# Altium schematic symbol library PartsLib.SchLib: 63 symbols (part 1 of 3)
Pins are listed as number, name and electrical type; pins without a type are passive.

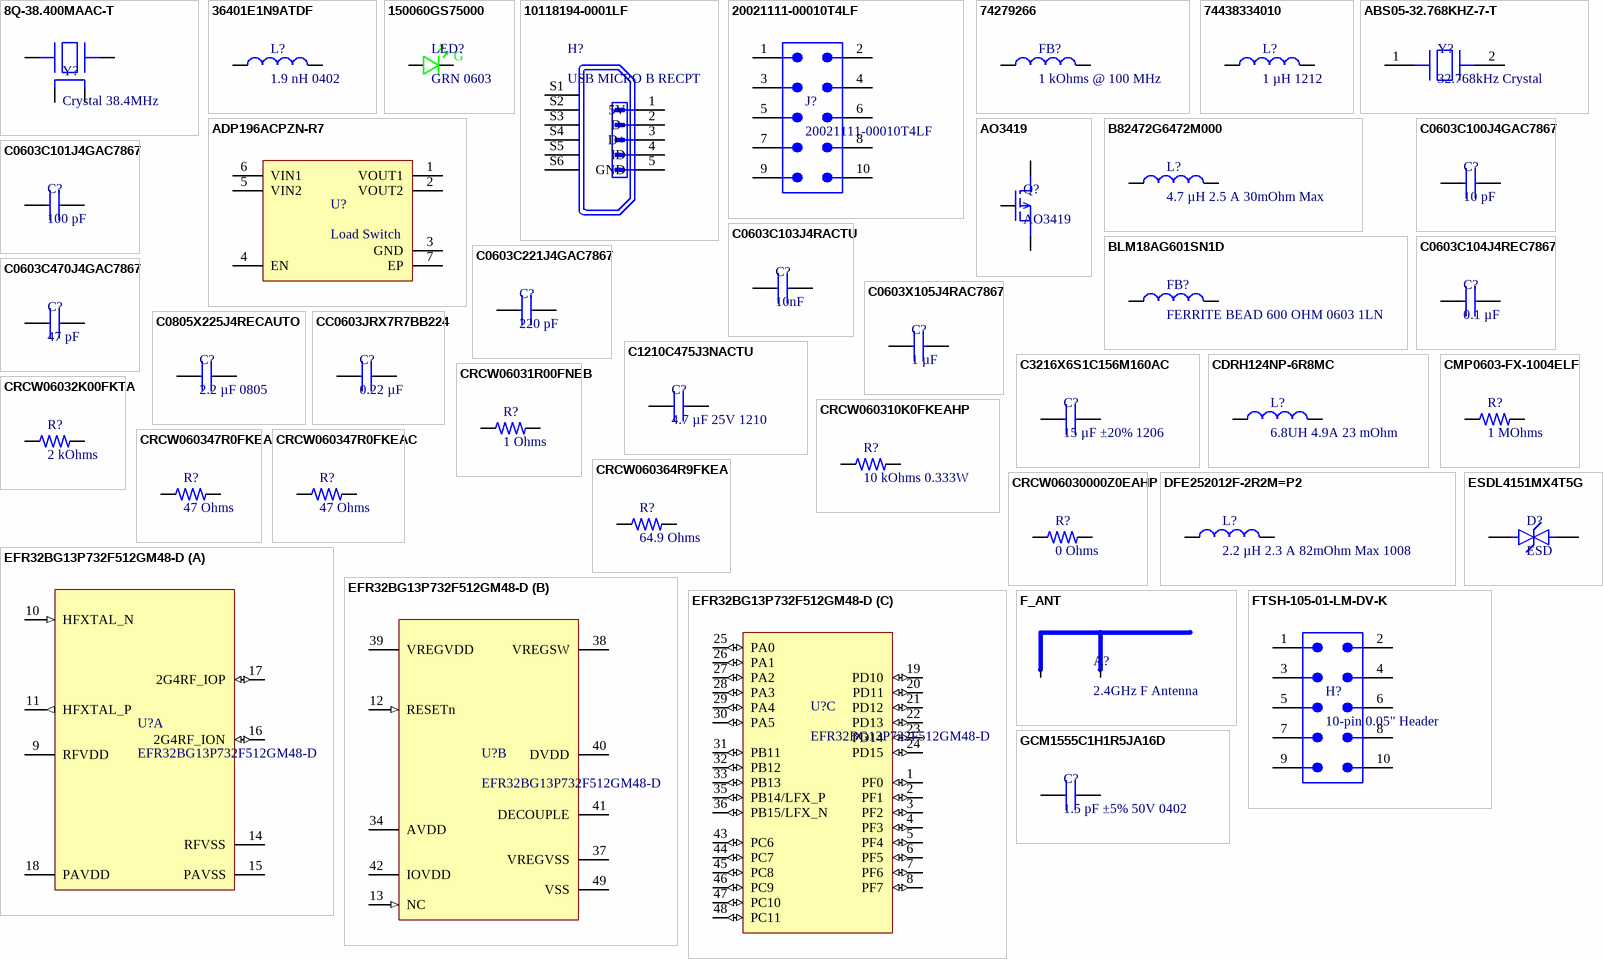
[diagram p0: symbols 8Q-38.400MAAC-T to GCM1555C1H1R5JA16D]

## 8Q-38.400MAAC-T
designator Y?, comment Crystal 38.4MHz
Crystal 38.4MHz ±30ppm (Tol) ±30ppm (Stability) 9pF FUND 80Ohm 4-Pin SMD T/R; Manufacturer: TXC; Manufacturer Part Number: 8Q-38.400MAAC-T; Supplier 1: Digi-Key; RoHS: No; Category: Uncategorized; Stock 1: 3000; Pricing 1: 1=0.79000, 10=0.69700, 50=0.65140, 100=0.57570, 500=0.54540, 1000=0.45450 (USD)
footprint DFN105P160X40-4N (DFN, 4-Leads, Body 1.20x1.60mm, Pitch 1.05mm, IPC Medium Density)
pins: 1 OSC_1, 2 GND, 3 OSC_2, 4 GND

## 36401E1N9ATDF
designator L?, comment 1.9 nH 0402
Ind High Frequency Chip Molded/Unshielded Thin Film 1.9nH 0.2nH 500MHz 13Q-Factor 560mA 0402 T/R; Manufacturer: TE Connectivity; Manufacturer Part Number: 36401E1N9ATDF; Q Factor: 13; Tolerance: 0.2%; Inductance: 0.0019uH; DC Resistance (DCR): 350mR; Self Resonant Frequency: 8GHz; Lead/Base Style: SMD/SMT; Supplier 1: Digi-Key; RoHS: Yes; Category: Fixed Inductors; Stock 1: 735; Pricing 1: 1=0.21000, 10=0.19200, 25=0.17080, 50=0.14520, 100=0.12820, 250=0.11752, 500=0.10684 (USD); Mount: Surface Mount; Case/Package: 0402; Number of Pins: 2; Case Code (Metric): 1005; Case Code (Imperial): 0402; Weight: 2.3E-05oz; Min Operating Temperature: -40°C; Max Operating Temperature: 85°C; Packaging: Tape and Reel; Package Quantity: 1000; Max DC Current: 560mA; Termination: SMD/SMT; Test Frequency: 500MHz; Max Frequency: 500MHz; Shielding: Unshielded; Resistor Type: Thin Film; Max Current Rating: 560mA; Series: 3640; Technology: THIN FILM; Length: 1mm; Width: 0.5mm; Height: 0.32mm; Depth: 0.55mm; Radiation Hardening: No; REACH SVHC: Unknown; ELV: Compliant; RoHS Compliant: Yes; ComponentLink1URL: https://datasheet.ciiva.com/1131/eng-cd-1624108-ba-1131568.pdf?src-supplier=Farnell; ComponentLink1Description: https://datasheet.ciiva.com/1131/eng-cd-1624108-ba-1131568.pdf?src-supplier=Farnell; ComponentLink2URL: https://datasheet.ciiva.com/11800/0900766b80e1823e-11800596.pdf?src-supplier=RSComponents; ComponentLink2Description: https://datasheet.ciiva.com/11800/0900766b80e1823e-11800596.pdf?src-supplier=RSComponents; ComponentLink3URL: https://datasheet.ciiva.com/1129/1610600-1129220.pdf?src-supplier=Element14; ComponentLink3Description: https://datasheet.ciiva.com/1129/1610600-1129220.pdf?src-supplier=Element14; ComponentLink4URL: https://datasheet.ciiva.com/1129/1610600-1129221.pdf?src-supplier=Element14; ComponentLink4Description: https://datasheet.ciiva.com/1129/1610600-1129221.pdf?src-supplier=Element14
footprint INDC0402X04N (Chip Inductor, 2-Leads, Body 1.00x0.50mm, IPC Medium Density)
pins: 1, 2

## 150060GS75000
designator LED?, comment GRN 0603
LED, 0603, GREEN, 430MCD, 520NM; Manufacturer: Wurth Electronics; Manufacturer Part Number: 150060GS75000; Dynamic Catalog: 0603 Rectangle with Flat Top Chip LEDs; 3D Model: SMCW_0603.igs / SMCW_0603.stp / SMCW_0603.wrl; Wavelength - Peak: 515nm; Voltage - Forward (Vf) (Typ): 3.2V; Current - Test: 20mA; Viewing Angle: 140°; Lens Type: Clear; Lens Style/Size: Rectangle with Flat Top, 1.1mm x 0.7mm; Other Names: 732-4971-2; Supplier 1: Digi-Key; Stock 1: 34964; Pricing 1: 1=0.14, 50=0.129, 100=0.11, 500=0.095 (USD); Standard Package: 4,000; Category: Optoelectronics; Family: LED Indication - Discrete; Series: WL-SMCW; Packaging: Tape & Reel (TR); Color: Green; Wavelength - Dominant: 520nm; Millicandela Rating: 430mcd; Package / Case: 0603 (1608 Metric); Size / Dimension: 1.60mm L x 0.80mm W; Height: 0.70mm; Mounting Type: Surface Mount; Online Catalog: 0603 Rectangle with Flat Top Chip LEDs; ComponentLink1URL: https://katalog.we-online.de/led/datasheet/150060GS75000.pdf?src-supplier=Digi-Key; ComponentLink1Description: https://katalog.we-online.de/led/datasheet/150060GS75000.pdf?src-supplier=Digi-Key; ComponentLink2URL: http://www.produktinfo.conrad.com/datenblaetter/750000-774999/759427-da-01-en-CHIPLED_0603_W_KL_GRUEN_150060GS75000.pdf?src-supplier=Conrad; ComponentLink2Description: http://www.produktinfo.conrad.com/datenblaetter/750000-774999/759427-da-01-en-CHIPLED_0603_W_KL_GRUEN_150060GS75000.pdf?src-supplier=Conrad; Supplier Part Number 1: 732-4971-1-ND
footprint LED_0603_GRN_WL-SMCW (SODFL, 2-Leads, Body 0.80x1.80mm, IPC Medium Density)
pins: A, C
text: G

## 10118194-0001LF
designator H?, comment USB MICRO B RECPT
USB - micro B USB 2.0 Receptacle Connector 5 Position Surface Mount, Right Angle; Through Hole; Manufacturer: Amphenol FCI; Manufacturer Part Number: 10118194-0001LF; Number of Terminals/Pins: 5; Current Rating: 1.8A; Connector Type: USB,Receptacle; Insulation Resistance: 1GR; Number of Ports: 1; Max Voltage Rating (AC): 100V; Pitch: 0.65mm; Supplier 1: Digi-Key; RoHS: Yes; Category: USB Connectors; Stock 1: 87961; Pricing 1: 1=0.48000, 10=0.45100, 25=0.38680, 50=0.32860, 100=0.31580, 250=0.28360, 500=0.27070 (USD); Mount: Surface Mount,Horizontal; Contact Material: Copper Alloy; Contact Plating: Gold; Housing Material: Polymer; Color: Black; Min Operating Temperature: -55°C; Max Operating Temperature: 85°C; Package Quantity: 9600; Packaging: Tape and Reel; Gender: Receptacle; Number of Contacts: 5; Termination: Solder; Orientation: Right Angle; Features: Shielded; Length: 8.05mm; Depth: 5mm; Radiation Hardening: No; Lead Free: Lead Free; Flammability Rating: UL94 V-0; ComponentLink1URL: https://datasheet.ciiva.com/4598/10118194ac-197217-4598807.pdf?src-supplier=Mouser; ComponentLink1Description: https://datasheet.ciiva.com/4598/10118194ac-197217-4598807.pdf?src-supplier=Mouser; ComponentLink2URL: https://datasheet.ciiva.com/26945/getdatasheetpartid-418619-26945695.pdf?src-supplier=Verical; ComponentLink2Description: https://datasheet.ciiva.com/26945/getdatasheetpartid-418619-26945695.pdf?src-supplier=Verical; ComponentLink3URL: https://datasheet.ciiva.com/851/10118194-851110.pdf?src-supplier=Digi-Key; ComponentLink3Description: https://datasheet.ciiva.com/851/10118194-851110.pdf?src-supplier=Digi-Key; ComponentLink4URL: https://datasheet.ciiva.com/851/10118194-851111.pdf?src-supplier=Digi-Key; ComponentLink4Description: https://datasheet.ciiva.com/851/10118194-851111.pdf?src-supplier=Digi-Key; Supplier Part Number 1: 609-4618-6-ND
footprint MICROUSB_AMPHENOL_10118194-0001LF
pins: 1 5V (power), 2 D-, 3 D+, 4 ID, 5 GND, S1, S2, S3, S4, S5, S6

## 20021111-00010T4LF
designator J?
Conn Unshrouded Header HDR 10 POS 1.27mm Solder ST Top Entry Thru-Hole Minitek127® Tube; Mfr_Name: Amphenol ICC; Manufacturer: Amphenol ICC / FCI; Copyright: Copyright (C) 2022 Ultra Librarian. All rights reserved.; Manufacturer_Part_Number: 20021111-00010T4LF; Digi-Key_Part_Number_1: 609-3712-ND; RefDes: RefDes; Type: DEV; Supplier 1: Avnet; Manufacturer Part Number: 20021111-00010T4LF; RoHS: No; Category: Headers and Wire Housings; Stock 1: 3760; Pricing 1: 1=0.39546, 10=0.38532, 30=0.37518, 50=0.36504, 100=0.35490, 250=0.34476, 500=0.33462 (USD); ComponentLink1URL: http://components.arrow.com/part/dataview/0323_00898490?src-supplier=Arrow+Europe; ComponentLink1Description: http://components.arrow.com/part/dataview/0323_00898490?src-supplier=Arrow+Europe; ComponentLink2URL: http://uk.rs-online.com/webdocs/13f3/0900766b813f3563.pdf?src-supplier=RSComponents; ComponentLink2Description: http://uk.rs-online.com/webdocs/13f3/0900766b813f3563.pdf?src-supplier=RSComponents; ComponentLink3URL: http://www.farnell.com/datasheets/2374175.pdf?src-supplier=Farnell; ComponentLink3Description: http://www.farnell.com/datasheets/2374175.pdf?src-supplier=Farnell; ComponentLink4URL: http://portal.fciconnect.com/Comergent/fci/drawing/20021111.pdf?src-supplier=Avnet; ComponentLink4Description: http://portal.fciconnect.com/Comergent/fci/drawing/20021111.pdf?src-supplier=Avnet; ComponentLink5URL: https://cdn.amphenol-icc.com/media/wysiwyg/files/drawing/20021111.pdf?src-supplier=Digi-Key; ComponentLink5Description: https://cdn.amphenol-icc.com/media/wysiwyg/files/drawing/20021111.pdf?src-supplier=Digi-Key; ComponentLink6URL: http://portal.fciconnect.com/Comergent//fci/drawing/20021111.pdf?src-supplier=Mouser; ComponentLink6Description: http://portal.fciconnect.com/Comergent//fci/drawing/20021111.pdf?src-supplier=Mouser; ComponentLink7URL: http://www.farnell.com/datasheets/2374175.pdf?src-supplier=Newark; ComponentLink7Description: http://www.farnell.com/datasheets/2374175.pdf?src-supplier=Newark
footprint CONN_MINITEK_2X5_HDR
pins: 1, 2, 3, 4, 5, 6, 7, 8, 9, 10

## 74279266
designator FB?, comment 1 kOhms @ 100 MHz
Ferrite Beads Multi-Layer 1KOhm 25% 100MHz 0.65A 0.6Ohm DCR 0603 T/R; Manufacturer: Wurth Electronics; Manufacturer Part Number: 74279266; Impedance: 1kR; Max DC Current: 200mA; DC Resistance (DCR): 600mR; Number of Lines: 1; Inductance: 1.8nH; Shielding: Unshielded; Supplier 1: Digi-Key; RoHS: Yes; Category: Ferrite Beads and Chips; Pricing 1: 1=0.18000, 50=0.17400, 100=0.16000, 500=0.15300, 1000=0.14600, 2000=0.13900 (USD); Case/Package: SMD/SMT; Case Code (Metric): 1608; Case Code (Imperial): 0603; Core Material: Ferrite; Min Operating Temperature: -55°C; Max Operating Temperature: 125°C; Tolerance: 25%; Packaging: Tape and Reel; Termination: SMD/SMT; Test Frequency: 100MHz; Max Current Rating: 200mA; Series: WE-CBF; Current Rating: 200mA; Length: 1.6mm; Width: 0.8mm; Height: 0.8mm; Depth: 0.8mm; Lead Free: Lead Free; REACH SVHC: Unknown; RoHS Compliant: Yes; ComponentLink1URL: https://datasheet.ciiva.com/12395/74279266-221135-12395453.pdf?src-supplier=Mouser; ComponentLink1Description: https://datasheet.ciiva.com/12395/74279266-221135-12395453.pdf?src-supplier=Mouser; ComponentLink2URL: https://datasheet.ciiva.com/14971/74279266-14971192.pdf?src-supplier=Digi-Key; ComponentLink2Description: https://datasheet.ciiva.com/14971/74279266-14971192.pdf?src-supplier=Digi-Key; ComponentLink3URL: https://datasheet.ciiva.com/14634/0900766b801ef1d0-14634816.pdf?src-supplier=Allied+Electronics; ComponentLink3Description: https://datasheet.ciiva.com/14634/0900766b801ef1d0-14634816.pdf?src-supplier=Allied+Electronics; ComponentLink4URL: https://datasheet.ciiva.com/11799/0900766b801ef1d0-11799352.pdf?src-supplier=RSComponents; ComponentLink4Description: https://datasheet.ciiva.com/11799/0900766b801ef1d0-11799352.pdf?src-supplier=RSComponents; ComponentLink5URL: https://datasheet.ciiva.com/23763/74279266-23763009.pdf?src-supplier=Newark; ComponentLink5Description: https://datasheet.ciiva.com/23763/74279266-23763009.pdf?src-supplier=Newark; ComponentLink6URL: https://datasheet.ciiva.com/22711/1705901-22711422.pdf?src-supplier=Element14; ComponentLink6Description: https://datasheet.ciiva.com/22711/1705901-22711422.pdf?src-supplier=Element14; ComponentLink7URL: https://datasheet.ciiva.com/1466/1705901-1466509.pdf?src-supplier=Element14; ComponentLink7Description: https://datasheet.ciiva.com/1466/1705901-1466509.pdf?src-supplier=Element14; ComponentLink8URL: https://datasheet.ciiva.com/48698/001087059-da-01-ml-we-cbf-smd-ferrit-74279266-de-en-48698427.pdf?src-supplier=Conrad; ComponentLink8Description: https://datasheet.ciiva.com/48698/001087059-da-01-ml-we-cbf-smd-ferrit-74279266-de-en-48698427.pdf?src-supplier=Conrad
footprint INDC0603X10N (Chip Inductor, 2-Leads, Body 1.60x0.80mm, IPC Medium Density)
pins: 1, 2

## 74438334010
designator L?, comment 1 µH 1212
Inductor Power Shielded Wirewound 1uH 20% 100KHz Powdered Iron 2.75A 50.5mOhm DCR 1212 T/R; Manufacturer: Wurth Electronics; Manufacturer Part Number: 74438334010; Core Material: Metal,Composite,Ferrite; Saturation Current: 6.6A; Self Resonant Frequency: 80MHz; DC Resistance (DCR): 50.5mR; Series Resistance: 42.1mR; Supplier 1: Digi-Key; RoHS: Yes; Category: Fixed Inductors; Stock 1: 910; Pricing 1: 1=1.16000, 10=1.14800, 50=1.07100, 100=0.99500, 500=0.91800 (USD); Mount: Surface Mount; Case/Package: SMD/SMT; Case Code (Metric): 3030; Case Code (Imperial): 1212; Min Operating Temperature: -40°C; Max Operating Temperature: 125°C; Inductance: 1uH; Tolerance: 20%; Package Quantity: 1000; Packaging: Tape and Reel; Current Rating: 2.75A; Shielding: Shielded; Inductance Tolerance: 20%; Test Frequency: 100kHz; Max DC Current: 2.75A; Termination: SMD/SMT; RMS Current (Irms): 2.75A; Length: 3mm; Width: 0.118inch; Height: 1.2mm; Height - Seated (Max): 0.047inch; Depth: 3mm; REACH SVHC: Unknown; RoHS Compliant: Yes; ComponentLink1URL: https://datasheet.ciiva.com/29696/74438334010-29696486.pdf?src-supplier=Digi-Key; ComponentLink1Description: https://datasheet.ciiva.com/29696/74438334010-29696486.pdf?src-supplier=Digi-Key; ComponentLink2URL: https://datasheet.ciiva.com/24213/74438334010-268062-24213867.pdf?src-supplier=Mouser; ComponentLink2Description: https://datasheet.ciiva.com/24213/74438334010-268062-24213867.pdf?src-supplier=Mouser; ComponentLink3URL: https://datasheet.ciiva.com/23954/1754798-23954760.pdf?src-supplier=Newark; ComponentLink3Description: https://datasheet.ciiva.com/23954/1754798-23954760.pdf?src-supplier=Newark; ComponentLink4URL: https://datasheet.ciiva.com/30489/0900766b812968ea-30489189.pdf?src-supplier=RSComponents; ComponentLink4Description: https://datasheet.ciiva.com/30489/0900766b812968ea-30489189.pdf?src-supplier=RSComponents; ComponentLink5URL: https://datasheet.ciiva.com/29696/74438334010-29696487.pdf?src-supplier=Digi-Key; ComponentLink5Description: https://datasheet.ciiva.com/29696/74438334010-29696487.pdf?src-supplier=Digi-Key; ComponentLink6URL: https://datasheet.ciiva.com/29696/74438334010-29696488.pdf?src-supplier=Digi-Key; ComponentLink6Description: https://datasheet.ciiva.com/29696/74438334010-29696488.pdf?src-supplier=Digi-Key; ComponentLink7URL: https://datasheet.ciiva.com/22748/1754798-22748266.pdf?src-supplier=Element14; ComponentLink7Description: https://datasheet.ciiva.com/22748/1754798-22748266.pdf?src-supplier=Element14
footprint INDP1212X12N (Precision Wire Wound Inductor, 2-Leads, Body 3.00x3.00mm, IPC Medium Density)
pins: 1, 2

## ABS05-32.768KHZ-7-T
designator Y?, comment 32.768kHz Crystal
CRYSTAL 32.768KHZ 7PF SMD; Manufacturer: Abracon; Manufacturer Part Number: ABS05-32.768KHZ-7-T; Supplier 1: Digi-Key; RoHS: No; Category: Uncategorized; Stock 1: 18000; Pricing 1: 1=1.51000, 10=1.44500, 50=1.41120, 100=1.20960, 500=1.17600, 1000=0.99120 (USD)
footprint DFN153P160X50-2N (DFN, 2-Leads, Body 1.00x1.60mm, Pitch 1.53mm, IPC Medium Density)
pins: 1, 2

## ADP196ACPZN-R7
designator U?, comment Load Switch
ICHIGH-SIDELOADSWITCH6LFCSP; Manufacturer: Analog Devices; Manufacturer Part Number: ADP196ACPZN-R7; Number of Outputs: 1; Output Current: 5A; On-State Resistance: 36mR; Turn-On Delay Time: 2ms; Max Supply Current: 4A; Interface: On/Off; Max Output Current: 3A; Operating Supply Current: 250nA; Max Input Voltage: 5.5V; Min Input Voltage: 1.8V; Fault Protection: Over Temperature; Output Configuration: High Side; Supplier 1: Digi-Key; RoHS: Yes; Category: Power Management ICs; Pricing 1: 1=1.72000, 10=1.54500, 25=1.45760, 100=1.24180, 250=1.16600, 500=1.02024, 1000=0.90750 (USD); Mount: Surface Mount; Case/Package: LFCSP EP; Number of Pins: 6; Min Operating Temperature: -40°C; Max Operating Temperature: 85°C; Packaging: Tape and Reel; Package Quantity: 3000; Operating Supply Voltage: 5.5V; Series: -; Radiation Hardening: No; Lead Free: Contains Lead; ComponentLink1URL: http://www.mouser.com/ds/2/609/ADP196-878889.pdf?src-supplier=Mouser; ComponentLink1Description: http://www.mouser.com/ds/2/609/ADP196-878889.pdf?src-supplier=Mouser; ComponentLink2URL: http://components.arrow.com/part/dataview/58949242S513746N2771?src-supplier=Arrow+Electronics; ComponentLink2Description: http://components.arrow.com/part/dataview/58949242S513746N2771?src-supplier=Arrow+Electronics; ComponentLink3URL: http://components.arrow.com/part/dataview/1762_07011809?src-supplier=Arrow+Europe; ComponentLink3Description: http://components.arrow.com/part/dataview/1762_07011809?src-supplier=Arrow+Europe; ComponentLink4URL: http://www.analog.com/static/imported-files/data_sheets/ADP196.pdf?src-supplier=Avnet; ComponentLink4Description: http://www.analog.com/static/imported-files/data_sheets/ADP196.pdf?src-supplier=Avnet; ComponentLink5URL: http://www.analog.com/media/en/technical-documentation/data-sheets/ADP196.pdf?src-supplier=Digi-Key; ComponentLink5Description: http://www.analog.com/media/en/technical-documentation/data-sheets/ADP196.pdf?src-supplier=Digi-Key; ComponentLink6URL: https://www.analog.com/media/en/technical-documentation/data-sheets/ADP196.pdf?src-supplier=Digi-Key; ComponentLink6Description: https://www.analog.com/media/en/technical-documentation/data-sheets/ADP196.pdf?src-supplier=Digi-Key
footprint SON65P200X60_HS-7N (SON, 6-Leads, Body 2.00x2.00mm, Pitch 0.65mm, Thermal Pad 1.60x0.63mm, IPC Medium Density)
pins: 1 VOUT1, 2 VOUT2, 3 GND, 4 EN, 5 VIN2, 6 VIN1, 7 EP

## AO3419
designator Q?
Trans MOSFET P-CH 20V 3.5A 3-Pin SOT-23; Manufacturer: Alpha & Omega Semiconductor; Rds On Max: 85mR; Input Capacitance: 400pF; Max Power Dissipation: 1.4W; Number of Elements: 1; Supplier 1: Digi-Key; Manufacturer Part Number: AO3419; RoHS: Yes; Category: MOSFETs; Pricing 1: 1=0.43000, 10=0.32200, 100=0.20060, 500=0.13728, 1000=0.10560 (USD); Mount: Surface Mount; Case/Package: TO-236-3; Number of Pins: 3; Min Operating Temperature: -55°C; Max Operating Temperature: 150°C; Packaging: Tape and Reel; Drain to Source Voltage (Vdss): 20V; Continuous Drain Current (ID): 3.5A; Power Dissipation: 1.4W; Series: -; Radiation Hardening: No; Lead Free: Lead Free; RoHS Compliant: Yes; ComponentLink1URL: https://datasheet.ciiva.com/940/ao3419-940694.pdf?src-supplier=Digi-Key; ComponentLink1Description: https://datasheet.ciiva.com/940/ao3419-940694.pdf?src-supplier=Digi-Key; ComponentLink2URL: https://datasheet.ciiva.com/940/ao3419-940695.pdf?src-supplier=Digi-Key; ComponentLink2Description: https://datasheet.ciiva.com/940/ao3419-940695.pdf?src-supplier=Digi-Key; ComponentLink3URL: https://datasheet.ciiva.com/940/ao3419-940696.pdf?src-supplier=Digi-Key; ComponentLink3Description: https://datasheet.ciiva.com/940/ao3419-940696.pdf?src-supplier=Digi-Key
footprint SOT95P300X115-3N (SOT23, 3-Leads, Body 3.10x3.00mm, Pitch 0.95mm, IPC Medium Density)
pins: 1, 2, 3

## B82472G6472M000
designator L?, comment 4.7 µH 2.5 A 30mOhm Max
Ind Power Shielded 4.7uH 20% 100KHz Ferrite 2.5A Blister T/R; Manufacturer: TDK EPCOS; Manufacturer Part Number: B82472G6472M000; Max DC Current: 2A; DC Resistance (DCR): 30mR; Supplier 1: Digi-Key; RoHS: Yes; Category: Fixed Inductors; Stock 1: 890; Pricing 1: 1=1.55000, 10=1.43500, 25=1.32480, 50=1.10420, 100=1.03790, 250=0.92748, 500=0.79496 (USD); Mount: Surface Mount; Case/Package: SMD/SMT; Number of Pins: 2; Core Material: Ferrite; Weight: 0.052911oz; Inductance Tolerance: 20%; Shielding: Shielded; Tolerance: 20%; Packaging: Tape and Reel; Package Quantity: 1000; Inductance: 4.7uH; Termination: SMD/SMT; RMS Current (Irms): 2.5A; Saturation Current: 2A; Test Frequency: 100kHz; DC Current: 2.5A; Series: B82472G6; Inductor Type: POWER; Length: 7.3mm; Width: 7.3mm; Height: 4.5mm; Depth: 7.5mm; REACH SVHC: No SVHC; Military Standard: Not; ComponentLink1URL: https://datasheet.ciiva.com/5874/78362-5874896.pdf?src-supplier=Farnell; ComponentLink1Description: https://datasheet.ciiva.com/5874/78362-5874896.pdf?src-supplier=Farnell; ComponentLink2URL: https://datasheet.ciiva.com/8003/78362-8003419.pdf?src-supplier=Element14; ComponentLink2Description: https://datasheet.ciiva.com/8003/78362-8003419.pdf?src-supplier=Element14; ComponentLink3URL: https://datasheet.ciiva.com/22700/1899161-22700808.pdf?src-supplier=Element14; ComponentLink3Description: https://datasheet.ciiva.com/22700/1899161-22700808.pdf?src-supplier=Element14
footprint INDP7272X45N (Precision Wire Wound Inductor, 2-Leads, Body 7.20x7.20mm, IPC Medium Density)
pins: 1, 2

## BLM18AG601SN1D
designator FB?, comment FERRITE BEAD 600 OHM 0603 1LN
Ferrite Beads Multi-Layer 600Ohm 25% 100MHz 500mA 380mOhm DCR 0603 Automotive Paper T/R; Manufacturer: Murata; Manufacturer Part Number: BLM18AG601SN1D; Material: Steel,Ferrite; Impedance: 600R; DC Resistance (DCR): 380mR; Shielding: Unshielded; Number of Circuits: 1; Supplier 1: Digi-Key; RoHS: Yes; Category: Inductors; Pricing 1: 1=0.10000, 10=0.07900, 25=0.07200, 50=0.06480, 100=0.04760, 250=0.03460, 500=0.03170, 1000=0.02738 (USD); Case/Package: 0603; Number of Pins: 2; Core Material: Ferrite; Case Code (Metric): 1608; Case Code (Imperial): 0603; Weight: 7.1E-05oz; Min Operating Temperature: -55°C; Max Operating Temperature: 125°C; Tolerance: 25%; Package Quantity: 1; Packaging: Tape and Reel; Current Rating: 500mA; Termination: SMD/SMT; Max DC Current: 500mA; Max Current Rating: 500mA; Number of Lines: 1; Test Frequency: 100MHz; DC Current: 500mA; Frequency: 100MHz; Length: 1.6mm; Width: 0.8mm; Height: 0.8mm; Depth: 0.8mm; Radiation Hardening: No; RoHS Compliant: Yes; REACH SVHC: No SVHC; Military Standard: Not; Lead Free: Lead Free; ComponentLink1URL: https://datasheet.ciiva.com/19460/1844766-19460213.pdf?src-supplier=Jameco; ComponentLink1Description: https://datasheet.ciiva.com/19460/1844766-19460213.pdf?src-supplier=Jameco; ComponentLink2URL: https://datasheet.ciiva.com/41449/001172228-da-01-en-drossel-0603-600r-1-6x0-8mm-4000st-41449517.pdf?src-supplier=Conrad; ComponentLink2Description: https://datasheet.ciiva.com/41449/001172228-da-01-en-drossel-0603-600r-1-6x0-8mm-4000st-41449517.pdf?src-supplier=Conrad; ComponentLink3URL: https://datasheet.ciiva.com/29347/442309-da-01-en-chip-drossel-0603-600r-500ma-1-6x0-8mm-29347900.pdf?src-supplier=Conrad; ComponentLink3Description: https://datasheet.ciiva.com/29347/442309-da-01-en-chip-drossel-0603-600r-500ma-1-6x0-8mm-29347900.pdf?src-supplier=Conrad; ComponentLink4URL: https://datasheet.ciiva.com/1466/1756147-1466934.pdf?src-supplier=Element14; ComponentLink4Description: https://datasheet.ciiva.com/1466/1756147-1466934.pdf?src-supplier=Element14; ComponentLink5URL: https://datasheet.ciiva.com/1466/1756147-1466933.pdf?src-supplier=Element14; ComponentLink5Description: https://datasheet.ciiva.com/1466/1756147-1466933.pdf?src-supplier=Element14; ComponentLink6URL: https://datasheet.ciiva.com/1012/l0110s0100blm18a-1012018.pdf?src-supplier=Digi-Key; ComponentLink6Description: https://datasheet.ciiva.com/1012/l0110s0100blm18a-1012018.pdf?src-supplier=Digi-Key; ComponentLink7URL: https://datasheet.ciiva.com/1012/l0110s0100blm18a-1012017.pdf?src-supplier=Digi-Key; ComponentLink7Description: https://datasheet.ciiva.com/1012/l0110s0100blm18a-1012017.pdf?src-supplier=Digi-Key; ComponentLink8URL: https://datasheet.ciiva.com/1012/l0110s0100blm18a-1012019.pdf?src-supplier=Digi-Key; ComponentLink8Description: https://datasheet.ciiva.com/1012/l0110s0100blm18a-1012019.pdf?src-supplier=Digi-Key; ComponentLink9URL: https://datasheet.ciiva.com/16210/l0110s0100blm18a-16210006.pdf?src-supplier=Future+Electronics; ComponentLink9Description: https://datasheet.ciiva.com/16210/l0110s0100blm18a-16210006.pdf?src-supplier=Future+Electronics; ComponentLink10URL: https://datasheet.ciiva.com/3081/l0110s0100blm18a-3081613.pdf?src-supplier=Avnet; ComponentLink10Description: https://datasheet.ciiva.com/3081/l0110s0100blm18a-3081613.pdf?src-supplier=Avnet
footprint BLM18AG601SN1D (FERRITE BEAD 600 OHM 0603 1LN)
pins: 1, 2

## C0603C100J4GAC7867
designator C?, comment 10 pF
Cap Ceramic 10pF 16V C0G 5% SMD 0603 125°C Paper T/R; Manufacturer: KEMET; Manufacturer Part Number: C0603C100J4GAC7867; Supplier 1: Digi-Key; RoHS: Yes; Category: Ceramic Capacitors; Stock 1: 29408; Pricing 1: 1=0.25000, 10=0.17400, 50=0.11580, 100=0.09840, 500=0.06944, 1000=0.06075 (USD); Mount: Surface Mount; Case/Package: 0603; Dielectric Material: Ceramic; Min Operating Temperature: -55°C; Max Operating Temperature: 125°C; Capacitance: 10pF; Tolerance: 5%; Dielectric: C0G; Packaging: Tape and Reel; Voltage Rating (DC): 16V; Construction: Flat; Length: 1.6mm; Height: 0.8mm; Depth: 0.8mm; Radiation Hardening: No; Lead Free: Lead Free; ComponentLink1URL: http://components.arrow.com/part/dataview/0323_00312750?src-supplier=Arrow+Europe; ComponentLink1Description: http://components.arrow.com/part/dataview/0323_00312750?src-supplier=Arrow+Europe; ComponentLink2URL: http://capacitoredge.kemet.com/capedge2/DataSheet?pn=C0603C100J4GAC7867&src-supplier=Avnet+Europe; ComponentLink2Description: http://capacitoredge.kemet.com/capedge2/DataSheet?pn=C0603C100J4GAC7867&src-supplier=Avnet+Europe; ComponentLink3URL: https://api.kemet.com/component-edge/download/datasheet/C0603C100J4GACTU.pdf?src-supplier=Digi-Key; ComponentLink3Description: https://api.kemet.com/component-edge/download/datasheet/C0603C100J4GACTU.pdf?src-supplier=Digi-Key; ComponentLink4URL: http://capacitoredge.kemet.com/capedge2/DataSheet?pn=C0603C100J4GAC7867&src-supplier=Avnet; ComponentLink4Description: http://capacitoredge.kemet.com/capedge2/DataSheet?pn=C0603C100J4GAC7867&src-supplier=Avnet
footprint CAPC0603X09N (Chip Capacitor, 2-Leads, Body 1.60x0.80mm, IPC Medium Density)
pins: 1, 2

## C0603C101J4GAC7867
designator C?, comment 100 pF
Cap Ceramic 100pF 16V C0G 5% SMD 0603 125°C Paper T/R; Manufacturer: KEMET; Manufacturer Part Number: C0603C101J4GAC7867; Supplier 1: Digi-Key; RoHS: Yes; Category: Ceramic Capacitors; Stock 1: 12069; Pricing 1: 1=0.25000, 10=0.17400, 50=0.11580, 100=0.09840, 500=0.06944, 1000=0.06075 (USD); Mount: Surface Mount; Case/Package: 0603; Dielectric Material: Ceramic; Min Operating Temperature: -55°C; Max Operating Temperature: 125°C; Capacitance: 100pF; Tolerance: 5%; Dielectric: C0G; Packaging: Tape and Reel; Voltage Rating (DC): 16V; Construction: Flat; Length: 1.6mm; Height: 0.8mm; Depth: 0.8mm; Radiation Hardening: No; Lead Free: Lead Free; ComponentLink1URL: http://components.arrow.com/part/dataview/0323_00312687?src-supplier=Arrow+Europe; ComponentLink1Description: http://components.arrow.com/part/dataview/0323_00312687?src-supplier=Arrow+Europe; ComponentLink2URL: http://capacitoredge.kemet.com/capedge2/DataSheet?pn=C0603C101J4GAC7867&src-supplier=Avnet+Europe; ComponentLink2Description: http://capacitoredge.kemet.com/capedge2/DataSheet?pn=C0603C101J4GAC7867&src-supplier=Avnet+Europe; ComponentLink3URL: https://api.kemet.com/component-edge/download/datasheet/C0603C101J4GACTU.pdf?src-supplier=Digi-Key; ComponentLink3Description: https://api.kemet.com/component-edge/download/datasheet/C0603C101J4GACTU.pdf?src-supplier=Digi-Key; ComponentLink4URL: https://search.kemet.com/component-edge/download/datasheet/C0603C101J4GACTU.pdf?src-supplier=Digi-Key; ComponentLink4Description: https://search.kemet.com/component-edge/download/datasheet/C0603C101J4GACTU.pdf?src-supplier=Digi-Key; ComponentLink5URL: http://capacitoredge.kemet.com/capedge2/DataSheet?pn=C0603C101J4GAC7867&src-supplier=Avnet; ComponentLink5Description: http://capacitoredge.kemet.com/capedge2/DataSheet?pn=C0603C101J4GAC7867&src-supplier=Avnet
footprint CAPC0603X09N (Chip Capacitor, 2-Leads, Body 1.60x0.80mm, IPC Medium Density)
pins: 1, 2

## C0603C103J4RACTU
designator C?, comment 10nF
Cap Ceramic 0.01uF 16V X7R 5% SMD 0603 125°C Paper T/R; Manufacturer: KEMET; Manufacturer Part Number: C0603C103J4RACTU; Dissipation Factor: 3.5%; Supplier 1: Digi-Key; RoHS: Yes; Category: Ceramic Capacitors; Stock 1: 5301; Pricing 1: 1=0.35000, 10=0.24300, 50=0.16200, 100=0.13760, 500=0.09716, 1000=0.08501 (USD); Mount: Surface Mount; Case/Package: 0603; Case Code (Metric): 1608; Case Code (Imperial): 0603; Dielectric Material: Ceramic; Min Operating Temperature: -55°C; Max Operating Temperature: 125°C; Tolerance: 5%; Capacitance: 10nF; Dielectric: X7R; Packaging: Tape and Reel; Voltage Rating: 16V; Package Quantity: 1; Voltage Rating (DC): 16V; Termination: SMD/SMT; Series: C; Construction: Flat; Length: 1.6mm; Width: 0.031inch; Height: 0.8mm; Thickness: 0.034inch; Lead Pitch: 0.7mm; Depth: 0.8mm; Radiation Hardening: No; REACH SVHC: No SVHC; RoHS Compliant: Yes; ComponentLink1URL: https://datasheet.ciiva.com/5417/kem-c1002-x7r-smd-5417414.pdf?src-supplier=Mouser; ComponentLink1Description: https://datasheet.ciiva.com/5417/kem-c1002-x7r-smd-5417414.pdf?src-supplier=Mouser
footprint CAPC0603X09N (Chip Capacitor, 2-Leads, Body 1.60x0.80mm, IPC Medium Density)
pins: 1, 2

## C0603C104J4REC7867
designator C?, comment 0.1 µF
Cap Cer 0603 0.1UF 16V X7R 5%; Manufacturer: KEMET; Manufacturer Part Number: C0603C104J4REC7867; Supplier 1: Digi-Key; RoHS: No; Category: Ceramic Capacitors; Stock 1: 12000; Pricing 1: 1=0.16000, 10=0.11300, 50=0.06420, 100=0.05310, 500=0.03724, 1000=0.03083 (USD)
footprint CAPC0603X09N (Chip Capacitor, 2-Leads, Body 1.60x0.80mm, IPC Medium Density)
pins: 1, 2

## C0603C221J4GAC7867
designator C?, comment 220 pF
Cap Cer 220PF 16V C0G/NP0 0603; Manufacturer: KEMET; Manufacturer Part Number: C0603C221J4GAC7867; Dielectric Material: Ceramic; Tolerance: 5%; Dielectric: C0G; Supplier 1: DigiKey; Category: Ceramic Capacitors; Stock 1: 3450; Pricing 1: 1=0.30000, 10=0.20700, 50=0.13780, 100=0.11710, 500=0.08264, 1000=0.07230 (USD); Mount: Surface Mount; Case/Package: 0603; Min Operating Temperature: -55°C; Max Operating Temperature: 125°C; Capacitance: 220pF; Packaging: Tape and Reel; Voltage Rating (DC): 16V; Construction: Flat; Length: 1.6mm; Height: 0.8mm; Depth: 0.8mm; Radiation Hardening: No; Lead Free: Lead Free; ComponentLink1URL: http://components.arrow.com/part/dataview/0323_00318431?src-supplier=Arrow+Europe; ComponentLink1Description: http://components.arrow.com/part/dataview/0323_00318431?src-supplier=Arrow+Europe; ComponentLink2URL: http://capacitoredge.kemet.com/capedge2/DataSheet?pn=C0603C221J4GAC7867&src-supplier=Avnet; ComponentLink2Description: http://capacitoredge.kemet.com/capedge2/DataSheet?pn=C0603C221J4GAC7867&src-supplier=Avnet; ComponentLink3URL: http://capacitoredge.kemet.com/capedge2/DataSheet?pn=C0603C221J4GAC7867&src-supplier=Avnet+Europe; ComponentLink3Description: http://capacitoredge.kemet.com/capedge2/DataSheet?pn=C0603C221J4GAC7867&src-supplier=Avnet+Europe; ComponentLink4URL: https://datasheet.octopart.com/C0603C221J4GAC7867-KEMET-datasheet-157246123.pdf?src-supplier=Electro+Sonic; ComponentLink4Description: https://datasheet.octopart.com/C0603C221J4GAC7867-KEMET-datasheet-157246123.pdf?src-supplier=Electro+Sonic; ComponentLink5URL: https://datasheet.octopart.com/C0603C221J4GAC7867-KEMET-datasheet-84169754.pdf; ComponentLink5Description: https://datasheet.octopart.com/C0603C221J4GAC7867-KEMET-datasheet-84169754.pdf
footprint CAPC0603X09N (Chip Capacitor, 2-Leads, Body 1.60x0.80mm, IPC Medium Density)
pins: 1, 2

## C0603C470J4GAC7867
designator C?, comment 47 pF
Cap Ceramic 47pF 16V C0G 5% SMD 0603 125°C Paper T/R; Manufacturer: KEMET; Manufacturer Part Number: C0603C470J4GAC7867; Supplier 1: Digi-Key; RoHS: Yes; Category: Ceramic Capacitors; Stock 1: 19436; Pricing 1: 1=0.25000, 10=0.17400, 50=0.11580, 100=0.09840, 500=0.06944, 1000=0.06075 (USD); Mount: Surface Mount; Case/Package: 0603; Dielectric Material: Ceramic; Case Code (Imperial): 0603; Case Code (Metric): 1608; Min Operating Temperature: -55°C; Max Operating Temperature: 125°C; Packaging: Tape and Reel; Capacitance: 47pF; Tolerance: 5%; Dielectric: C0G; Voltage Rating (DC): 16V; Series: SMD Comm C0G; Voltage Rating: 16V; Construction: Flat; Length: 1.6mm; Height: 0.8mm; Depth: 0.8mm; Radiation Hardening: No; Lead Free: Lead Free; RoHS Compliant: Yes; ComponentLink1URL: http://components.arrow.com/part/dataview/0323_00323118?src-supplier=Arrow+Europe; ComponentLink1Description: http://components.arrow.com/part/dataview/0323_00323118?src-supplier=Arrow+Europe; ComponentLink2URL: http://capacitoredge.kemet.com/capedge2/DataSheet?pn=C0603C470J4GAC7867&src-supplier=Avnet+Europe; ComponentLink2Description: http://capacitoredge.kemet.com/capedge2/DataSheet?pn=C0603C470J4GAC7867&src-supplier=Avnet+Europe; ComponentLink3URL: https://api.kemet.com/component-edge/download/datasheet/C0603C470J4GACTU.pdf?src-supplier=Digi-Key; ComponentLink3Description: https://api.kemet.com/component-edge/download/datasheet/C0603C470J4GACTU.pdf?src-supplier=Digi-Key; ComponentLink4URL: http://capacitoredge.kemet.com/capedge2/DataSheet?pn=C0603C470J4GAC7867&src-supplier=Avnet; ComponentLink4Description: http://capacitoredge.kemet.com/capedge2/DataSheet?pn=C0603C470J4GAC7867&src-supplier=Avnet
footprint CAPC0603X09N (Chip Capacitor, 2-Leads, Body 1.60x0.80mm, IPC Medium Density)
pins: 1, 2

## C0603X105J4RAC7867
designator C?, comment 1 µF
Cap Ceramic 1uF 16V X7R 5% SMD 0603 125°C Paper T/R; Manufacturer: KEMET; Manufacturer Part Number: C0603X105J4RAC7867; Supplier 1: Digi-Key; RoHS: No; Category: Ceramic Capacitors; Stock 1: 20000; Pricing 1: 1=0.46000, 10=0.32200, 50=0.24340, 100=0.21210, 500=0.15708, 1000=0.13352 (USD); Mount: Surface Mount; Case/Package: 0603; Case Code (Imperial): 0603; Case Code (Metric): 1608; Min Operating Temperature: -55°C; Max Operating Temperature: 125°C; Features: Soft Termination; Packaging: Tape and Reel; Capacitance: 1uF; Tolerance: 5%; Voltage Rating: 16V; ComponentLink1URL: https://api.kemet.com/component-edge/download/datasheet/C0603X105J4RAC7867.pdf?src-supplier=Digi-Key; ComponentLink1Description: https://api.kemet.com/component-edge/download/datasheet/C0603X105J4RAC7867.pdf?src-supplier=Digi-Key
footprint CAPC0603X10N (Chip Capacitor, 2-Leads, Body 1.60x0.80mm, IPC Medium Density)
pins: 1, 2

## C0805X225J4RECAUTO
designator C?, comment 2.2 µF 0805
Cap Cer 0805 2.2UF 16V X7R 5%; Manufacturer: KEMET; Manufacturer Part Number: C0805X225J4RECAUTO; Supplier 1: Digi-Key; RoHS: Yes; Category: Ceramic Capacitors; Stock 1: 1112; Pricing 1: 1=0.64000, 10=0.45000, 50=0.34040, 100=0.29640, 500=0.21956, 1000=0.18663 (USD); RoHS Compliant: Yes; ComponentLink1URL: https://api.kemet.com/component-edge/download/datasheet/C0805X225J4RECAUTO.pdf?src-supplier=Digi-Key; ComponentLink1Description: https://api.kemet.com/component-edge/download/datasheet/C0805X225J4RECAUTO.pdf?src-supplier=Digi-Key
footprint CAPC0805X12N (Chip Capacitor, 2-Leads, Body 2.00x1.25mm, IPC Medium Density)
pins: 1, 2

## C1210C475J3NACTU
designator C?, comment 4.7 µF 25V 1210
1210 C 4.7uF Ceramic Multilayer Capacitor; 25 VDC; +85degC; X8L Dielec; +/-5%; Manufacturer: KEMET; Manufacturer Part Number: C1210C475J3NACTU; Tolerance: 5%; Dissipation Factor: 10%; Supplier 1: Digi-Key; RoHS: Yes; Category: Ceramic Capacitors; Stock 1: 7987; Pricing 1: 1=1.07000, 10=0.81000, 50=0.67300, 100=0.57950, 500=0.44866 (USD); Mount: Surface Mount,PCB; Case/Package: 1210; Case Code (Imperial): 1210; Case Code (Metric): 3225; Dielectric Material: Ceramic; Min Operating Temperature: -55°C; Max Operating Temperature: 150°C; Capacitance: 4.7uF; Dielectric: X8L; Voltage Rating: 25V; Voltage Rating (DC): 25V; Packaging: Tape and Reel; Package Quantity: 1; Termination: SMD/SMT; Voltage: 25V; Features: High Temperature; Series: C; Construction: Flat; Length: 3.2mm; Width: 2.5mm; Height: 2.5mm; Thickness: 0.11inch; Depth: 2.5mm; Radiation Hardening: No; REACH SVHC: No SVHC; Lead Free: Lead Free; RoHS Compliant: Yes; ComponentLink1URL: https://datasheet.ciiva.com/158/kem-c1008-x8l-150c-smd-158325.pdf?src-supplier=Digi-Key; ComponentLink1Description: https://datasheet.ciiva.com/158/kem-c1008-x8l-150c-smd-158325.pdf?src-supplier=Digi-Key; ComponentLink2URL: https://datasheet.ciiva.com/158/kem-c1008-x8l-150c-smd-158326.pdf?src-supplier=Digi-Key; ComponentLink2Description: https://datasheet.ciiva.com/158/kem-c1008-x8l-150c-smd-158326.pdf?src-supplier=Digi-Key; ComponentLink3URL: https://datasheet.ciiva.com/158/kem-c1008-x8l-150c-smd-158327.pdf?src-supplier=Digi-Key; ComponentLink3Description: https://datasheet.ciiva.com/158/kem-c1008-x8l-150c-smd-158327.pdf?src-supplier=Digi-Key
footprint CAPC1210X17N (Chip Capacitor, 2-Leads, Body 3.20x2.50mm, IPC Medium Density)
pins: 1, 2

## C3216X6S1C156M160AC
designator C?, comment 15 µF ±20% 1206
Cap Ceramic 15uF 16V X6S 20% SMD 1206 105°C Punched Paper T/R; Manufacturer: TDK; Manufacturer Part Number: C3216X6S1C156M160AC; Supplier 1: Digi-Key; RoHS: Yes; Category: Ceramic Capacitors; Stock 1: 1775; Pricing 1: 1=0.94000, 10=0.71500, 50=0.59400, 100=0.51150, 500=0.39600, 1000=0.34100 (USD); Mount: Surface Mount; Case/Package: 1206; Case Code (Metric): 3216; Case Code (Imperial): 1206; Weight: 0.000571oz; Dielectric Material: Ceramic; Min Operating Temperature: -55°C; Max Operating Temperature: 105°C; Package Quantity: 2000; Packaging: Tape and Reel; Capacitance: 15uF; Tolerance: 20%; Voltage Rating: 16V; Dielectric: X6S; Termination: SMD/SMT; Voltage Rating (DC): 16V; Series: C; Length: 0.126inch; Width: 0.063inch; Height: 1.6mm; Thickness: 0.071inch; Lead Free: Lead Free; RoHS Compliant: Yes; ComponentLink1URL: https://datasheet.ciiva.com/14893/tdkmlcccaprange-14893189.pdf?src-supplier=Digi-Key; ComponentLink1Description: https://datasheet.ciiva.com/14893/tdkmlcccaprange-14893189.pdf?src-supplier=Digi-Key
footprint CAP_1206_TDK-M
pins: 1, 2

## CC0603JRX7R7BB224
designator C?, comment 0.22 µF
0603 0.22 uF 16 V ±5% Tolerance X7R Multilayer Ceramic Capacitor; Manufacturer: Yageo; Manufacturer Part Number: CC0603JRX7R7BB224; Capacitance: 220nF; Voltage Rating (DC): 16V; Supplier 1: Digi-Key; RoHS: Yes; Category: Ceramic Capacitors; Stock 1: 48553; Pricing 1: 1=0.14000, 10=0.09800, 50=0.05580, 100=0.04620, 500=0.03238, 1000=0.02680 (USD); Mount: Surface Mount; Case/Package: 0603; Case Code (Imperial): 0603; Case Code (Metric): 1608; Weight: 7.1E-05oz; Min Operating Temperature: -55°C; Max Operating Temperature: 125°C; Tolerance: 5%; Packaging: Tape and Reel; Dielectric: X7R; Voltage Rating: 16V; Termination: SMD/SMT; Resistor Type: Ceramic; Series: CC; Length: 0.063inch; Width: 0.031inch; Thickness: 0.035inch; Depth: 0.8mm; Lead Free: Lead Free; Halogen Free: Halogen Free; RoHS Compliant: Yes; ComponentLink1URL: http://www.mouser.com/ds/2/447/Yageo_UPY-GP_NP0_16V-to-50V_9-358835.pdf?src-supplier=Mouser; ComponentLink1Description: http://www.mouser.com/ds/2/447/Yageo_UPY-GP_NP0_16V-to-50V_9-358835.pdf?src-supplier=Mouser; ComponentLink2URL: http://components.arrow.com/part/dataview/0323_04166475?src-supplier=Arrow+Europe; ComponentLink2Description: http://components.arrow.com/part/dataview/0323_04166475?src-supplier=Arrow+Europe; ComponentLink3URL: http://www.yageo.com/exep/pages/download/literatures/ProductSelectionGuide%202014_Final_2.pdf?src-supplier=Digi-Key; ComponentLink3Description: http://www.yageo.com/exep/pages/download/literatures/ProductSelectionGuide%202014_Final_2.pdf?src-supplier=Digi-Key; ComponentLink4URL: http://www.yageo.com/documents/recent/UPY-GPHC_X7R_6.3V-to-50V_18.pdf?src-supplier=Digi-Key; ComponentLink4Description: http://www.yageo.com/documents/recent/UPY-GPHC_X7R_6.3V-to-50V_18.pdf?src-supplier=Digi-Key
footprint CAPC0603X10N-Y (Chip Capacitor, 2-Leads, Body 1.60x0.80mm, IPC Medium Density)
pins: 1, 2

## CDRH124NP-6R8MC
designator L?, comment 6.8UH 4.9A 23 mOhm
Inductor Power Shielded Drum Core 6.8uH 20% 100KHz Ferrite 4.9A 23mOhm DCR T/R; Manufacturer: Sumida; Manufacturer Part Number: CDRH124NP-6R8MC; DC Resistance (DCR): 23mR; Supplier 1: Digi-Key; RoHS: Yes; Category: Fixed Inductors; Mount: Surface Mount; Core Material: Ferrite; Weight: 0.08113oz; Min Operating Temperature: -40°C; Max Operating Temperature: 100°C; Package Quantity: 500; Packaging: Tape and Reel; Tolerance: 20%; Current Rating: 4.9A; Shielding: Shielded; Inductance: 6.8uH; Test Frequency: 100kHz; Max DC Current: 4.9A; Termination: SMD/SMT; Series: CDRH124; Rated Current-Max: 4.9A; Length: 12.3mm; Width: 0.472inch; Height: 4.5mm; Height - Seated (Max): 0.177inch; Depth: 12.3mm; Radiation Hardening: No; Lead Free: Lead Free; RoHS Compliant: Yes; ComponentLink1URL: http://www.sumida.com/products/pdf/CDRH124.pdf?src-supplier=Avnet; ComponentLink1Description: http://www.sumida.com/products/pdf/CDRH124.pdf?src-supplier=Avnet; ComponentLink2URL: http://products.sumida.com/products/pdf/CDRH124.pdf?src-supplier=Digi-Key; ComponentLink2Description: http://products.sumida.com/products/pdf/CDRH124.pdf?src-supplier=Digi-Key; ComponentLink3URL: http://www.sumida.com/products/pdf/CDRH124.pdf?src-supplier=Future+Electronics; ComponentLink3Description: http://www.sumida.com/products/pdf/CDRH124.pdf?src-supplier=Future+Electronics; ComponentLink4URL: https://www.sumida.com/products/pdf/CDRH124.pdf?src-supplier=Mouser; ComponentLink4Description: https://www.sumida.com/products/pdf/CDRH124.pdf?src-supplier=Mouser; ComponentLink5URL: http://www.sumida.com/products/pdf/CDRH124.pdf?src-supplier=Avnet+Asia; ComponentLink5Description: http://www.sumida.com/products/pdf/CDRH124.pdf?src-supplier=Avnet+Asia
footprint INDP120120X45N (Precision Wire Wound Inductor, 2-Leads, Body 12.00x12.00mm, IPC Medium Density)
pins: 1, 2

## CMP0603-FX-1004ELF
designator R?, comment 1 MOhms
Resistor, ResHighPower 0603 1M 1% 1/4W TC100; Manufacturer: Bourns; Manufacturer Part Number: CMP0603-FX-1004ELF; Supplier 1: Digi-Key; RoHS: Yes; Category: Chip SMD Resistors; Stock 1: 4809; Pricing 1: 1=0.15000, 10=0.13200, 100=0.05060, 1000=0.02226, 2500=0.01923 (USD); RoHS Compliant: Yes
footprint RESC0603X06N-BB (Chip Resistor, 2-Leads, Body 1.60x0.80mm, IPC Medium Density)
pins: 1, 2

## CRCW06031R00FNEB
designator R?, comment 1 Ohms
Thick Film Resistors - SMD 1/10watt 1ohms 1% 200ppm; Manufacturer: Vishay Dale; Manufacturer Part Number: CRCW06031R00FNEB; Resistance: 1R; Power Rating: 100mW; Voltage Rating: 75V; Temperature Coefficient: 200ppm/°C; Supplier 1: Digi-Key; RoHS: Yes; Category: Chip SMD Resistors; Stock 1: 18550; Pricing 1: 1=0.10000, 10=0.07700, 100=0.03120, 1000=0.01402, 2500=0.01217, 5000=0.01005 (USD); Case/Package: 0603; Weight: 7.1E-05oz; Case Code (Imperial): 0603; Case Code (Metric): 1608; Contact Plating: Tin; Min Operating Temperature: -55°C; Max Operating Temperature: 155°C; Tolerance: 1%; Packaging: Tape and Reel; Package Quantity: 10000; Resistor Type: Thick Film; Number of Terminations: 2; Termination: SMD/SMT; Max Power Dissipation: 100mW; Features: Automotive AEC-Q200; Series: CRCW; Length: 0.061inch; Width: 0.033inch; Height: 0.02inch; Radiation Hardening: No; Lead Free: Lead Free; RoHS Compliant: Yes; ComponentLink1URL: https://datasheet.ciiva.com/5549/dcrcwe3-109170-5549015.pdf?src-supplier=Mouser; ComponentLink1Description: https://datasheet.ciiva.com/5549/dcrcwe3-109170-5549015.pdf?src-supplier=Mouser
footprint RESC0603X05N (Chip Resistor, 2-Leads, Body 1.58x0.85mm, IPC Medium Density)
pins: 1, 2

## CRCW06032K00FKTA
designator R?, comment 2 kOhms
Res Thick Film 0603 2K Ohm 1% 1/10W ±100ppm/°C Molded SMD SMD Paper T/R; Manufacturer: Vishay Dale; Manufacturer Part Number: CRCW06032K00FKTA; Resistance: 2kR; Power Rating: 100mW; Voltage Rating: 75V; Supplier 1: Digi-Key; RoHS: No; Category: Chip SMD Resistors; Stock 1: 4209; Pricing 1: 1=0.16000, 10=0.13900, 100=0.05350, 1000=0.02353, 2500=0.02032 (USD); Mount: Surface Mount; Case/Package: 0603; Number of Pins: 2; Weight: 7.1E-05oz; Case Code (Imperial): 0603; Case Code (Metric): 1608; Contact Plating: Tin,Lead; Min Operating Temperature: -55°C; Max Operating Temperature: 155°C; Tolerance: 1%; Packaging: Tape and Reel; Package Quantity: 5000; Resistor Type: Thick Film; Number of Terminations: 2; Termination: SMD/SMT; Temperature Coefficient: 100ppm/°C; Max Power Dissipation: 100mW; Power Dissipation: 100mW; Voltage Rating (DC): 75V; Features: Automotive AEC-Q200; Series: CRCW; Construction: Rectangular; Resistance Tolerance: 1%; Length: 1.55mm; Width: 0.033inch; Height: 0.02inch; Depth: 0.85mm; Radiation Hardening: No; Lead Free: Contains Lead; RoHS Compliant: No; REACH SVHC: Unknown; Military Standard: Not; ComponentLink1URL: https://datasheet.ciiva.com/15159/getdatasheetpartid-28881-15159221.pdf?src-supplier=Verical; ComponentLink1Description: https://datasheet.ciiva.com/15159/getdatasheetpartid-28881-15159221.pdf?src-supplier=Verical; ComponentLink2URL: https://datasheet.ciiva.com/9093/dcrcw-9093590.pdf?src-supplier=Avnet; ComponentLink2Description: https://datasheet.ciiva.com/9093/dcrcw-9093590.pdf?src-supplier=Avnet; ComponentLink3URL: https://datasheet.ciiva.com/2565/dcrcw-2565199.pdf?src-supplier=Digi-Key; ComponentLink3Description: https://datasheet.ciiva.com/2565/dcrcw-2565199.pdf?src-supplier=Digi-Key; ComponentLink4URL: https://datasheet.ciiva.com/9094/dcrcw-9094813.pdf?src-supplier=Avnet; ComponentLink4Description: https://datasheet.ciiva.com/9094/dcrcw-9094813.pdf?src-supplier=Avnet
footprint RESC0603X05N-1 (Chip Resistor, 2-Leads, Body 1.58x0.85mm, IPC Medium Density)
pins: 1, 2

## CRCW060310K0FKEAHP
designator R?, comment 10 kOhms 0.333W
Res Thick Film 0603 10K Ohm 1% 0.33W(1/3W) ±100ppm/°C Pad SMD Automotive T/R; Manufacturer: Vishay; Manufacturer Part Number: CRCW060310K0FKEAHP; Resistance: 10kR; Power Rating: 250mW; Voltage Rating: 75V; Supplier 1: Digi-Key; RoHS: Yes; Category: Chip SMD Resistors; Stock 1: 391663; Pricing 1: 1=0.17000, 10=0.14800, 100=0.05790, 1000=0.02422, 2500=0.02220 (USD); Case/Package: 0603; Contact Plating: Tin; Weight: 7.1E-05oz; Case Code (Metric): 1608; Case Code (Imperial): 0603; Min Operating Temperature: -55°C; Max Operating Temperature: 155°C; Tolerance: 1%; Resistor Type: Thick Film; Temperature Coefficient: 100ppm/°C; Packaging: Tape and Reel; Package Quantity: 10; Number of Terminations: 2; Termination: SMD/SMT; Max Power Dissipation: 250mW; Voltage Rating (DC): 75V; Features: Automotive AEC-Q200; Series: CRCW-HP; Construction: Rectangular; Resistance Tolerance: 1%; Technology: THICK FILM; Length: 1.6mm; Width: 0.033inch; Height: 0.45mm; Depth: 0.85mm; Radiation Hardening: No; REACH SVHC: Unknown; Military Standard: Not; Lead Free: Lead Free; RoHS Compliant: Yes; ComponentLink1URL: https://datasheet.ciiva.com/9052/crcwhpe3-9052617.pdf?src-supplier=Avnet; ComponentLink1Description: https://datasheet.ciiva.com/9052/crcwhpe3-9052617.pdf?src-supplier=Avnet; ComponentLink2URL: https://datasheet.ciiva.com/2472/crcwhpe3-2472532.pdf?src-supplier=Digi-Key; ComponentLink2Description: https://datasheet.ciiva.com/2472/crcwhpe3-2472532.pdf?src-supplier=Digi-Key; ComponentLink3URL: https://datasheet.ciiva.com/2472/crcwhpe3-2472533.pdf?src-supplier=Digi-Key; ComponentLink3Description: https://datasheet.ciiva.com/2472/crcwhpe3-2472533.pdf?src-supplier=Digi-Key; ComponentLink4URL: https://datasheet.ciiva.com/2472/crcwhpe3-2472534.pdf?src-supplier=Digi-Key; ComponentLink4Description: https://datasheet.ciiva.com/2472/crcwhpe3-2472534.pdf?src-supplier=Digi-Key; ComponentLink5URL: https://datasheet.ciiva.com/5548/crcwhpe3-46056-5548143.pdf?src-supplier=Mouser; ComponentLink5Description: https://datasheet.ciiva.com/5548/crcwhpe3-46056-5548143.pdf?src-supplier=Mouser; ComponentLink6URL: https://datasheet.ciiva.com/28588/1912814-28588878.pdf?src-supplier=Element14; ComponentLink6Description: https://datasheet.ciiva.com/28588/1912814-28588878.pdf?src-supplier=Element14
footprint RESC0603X06N (Chip Resistor, 2-Leads, Body 1.60x0.85mm, IPC Medium Density)
pins: 1, 2